# Altium footprint library Pcb_Lib.PcbLib: 2 footprints
Each footprint in its own frame and in the unit in brackets; x right, y up, seen from the top. Pads: shape width x height; smd on the part's side, far side on the other; paste and mask are expansions set on the pad; w line width, h text height; cw(c..) or ccw(c..) is an arc to the next point about the centre after c.

## RES0805 [mm]

## RES1206 [mm]
3D body "RESC3216.STEP": height 0.6, standoff 0, extent -1.6,-0.8 1.6,0.8